# EAGLE library part TESEO-LIV3R (library TESEO-LIV3R)
- RF Receiver BeiDou, GLONASS, GNSS, GPS 1.561GHz, 1.575MHz -163dBm Not Included 18-LCC (9.7x10.1) Source: Datasheet <https://www.st.com/resource/en/datasheet/teseo-liv3r.pdf>
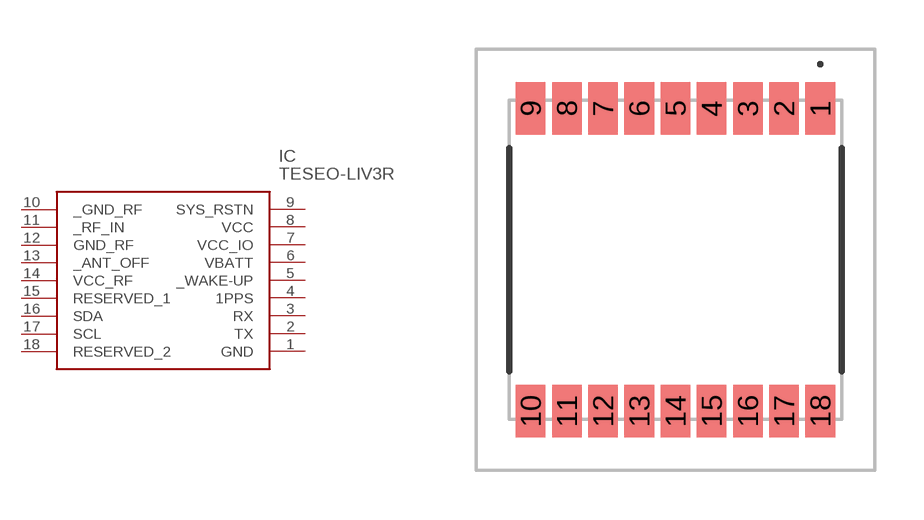
[diagram p0: symbol with the pads of TESEOLIV3R; footprint TESEOLIV3R]

Designator prefix IC

## TESEO-LIV3R (Arrow_Part_Number: TESEO-LIV3R; Arrow_Price-Stock: https://www.arrow.com/en/products/teseo-liv3r/stmicroelectronics?region=nac; Description: - RF Receiver BeiDou, GLONASS, GNSS, GPS 1.561GHz, 1.575MHz -163dBm Not Included 18-LCC (9.7x10.1); Height: 2.3mm; Manufacturer_Name: STMicroelectronics; Manufacturer_Part_Number: TESEO-LIV3R; Mouser_Part_Number: 511-TESEO-LIV3R; Mouser_Price-Stock: https://www.mouser.co.uk/ProductDetail/STMicroelectronics/TESEO-LIV3R?qs=ZSypp649SOXG7EmhCFcBlw%3D%3D)  [TESEOLIV3R]
1  GND
2  TX
3  RX
4  1PPS
5  _WAKE-UP
6  VBATT
7  VCC_IO
8  VCC
9  SYS_RSTN
10  _GND_RF
11  _RF_IN
12  GND_RF
13  _ANT_OFF
14  VCC_RF
15  RESERVED_1
16  SDA
17  SCL
18  RESERVED_2

## Footprint TESEOLIV3R (pad centres in mm)
LCC-18 (9.7 mm x 10.1 mm)
smd 0.9 x 1.6: 1 4.4,4.6; 2 3.3,4.6; 3 2.2,4.6; 4 1.1,4.6; 5 0,4.6; 6 -1.1,4.6; 7 -2.2,4.6; 8 -3.3,4.6; 9 -4.4,4.6; 10 -4.4,-4.6; 11 -3.3,-4.6; 12 -2.2,-4.6; 13 -1.1,-4.6; 14 0,-4.6; 15 1.1,-4.6; 16 2.2,-4.6; 17 3.3,-4.6; 18 4.4,-4.6